# EAGLE library part ATTINY10-TS8R (library 32bits)
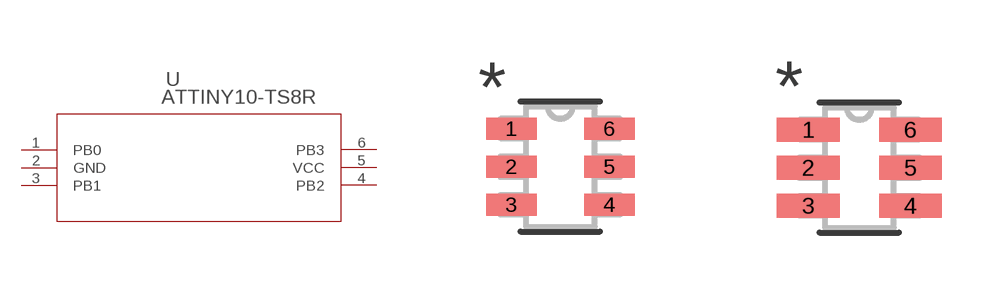
[diagram p4: symbol with the pads of 6ST1; footprints 6ST1, 6ST1-M]

Designator prefix U

## ATTINY10-TS8R (MANUFACTURER_PART_NUMBER: attiny10ts8r; VENDOR: ATMEL)  [6ST1]
1  PB0
2  GND  pwr
3  PB1
4  PB2
5  VCC  pwr
6  PB3

## ATTINY10-TS8R6ST1-M (MANUFACTURER_PART_NUMBER: attiny10ts8r; VENDOR: ATMEL)  [6ST1-M]
Pads as for 6ST1

## ATTINY10-TS8R6ST1-L (MANUFACTURER_PART_NUMBER: attiny10ts8r; VENDOR: ATMEL)  [6ST1-L]
Pads as for 6ST1

## Footprint 6ST1 (pad centres in mm)
smd 1.261 x 0.551: 1 -1.225,0.95; 2 -1.225,0; 3 -1.225,-0.95; 4 1.225,-0.95; 5 1.225,0; 6 1.225,0.95

## Footprint 6ST1-M (pad centres in mm)
smd 1.566 x 0.602: 1 -1.276,0.95; 2 -1.276,0; 3 -1.276,-0.95; 4 1.276,-0.95; 5 1.276,0; 6 1.276,0.95

## Footprint 6ST1-L (pad centres in mm)
smd 0.956 x 0.5: 1 -1.174,0.95; 2 -1.174,0; 3 -1.174,-0.95; 4 1.174,-0.95; 5 1.174,0; 6 1.174,0.95